# Altium footprint library MiscPower.PcbLib: 174 footprints (part 11 of 12)
Each footprint in its own frame and in the unit in brackets; x right, y up, seen from the top. Pads: shape width x height; smd on the part's side, far side on the other; paste and mask are expansions set on the pad; w line width, h text height; cw(c..) or ccw(c..) is an arc to the next point about the centre after c.
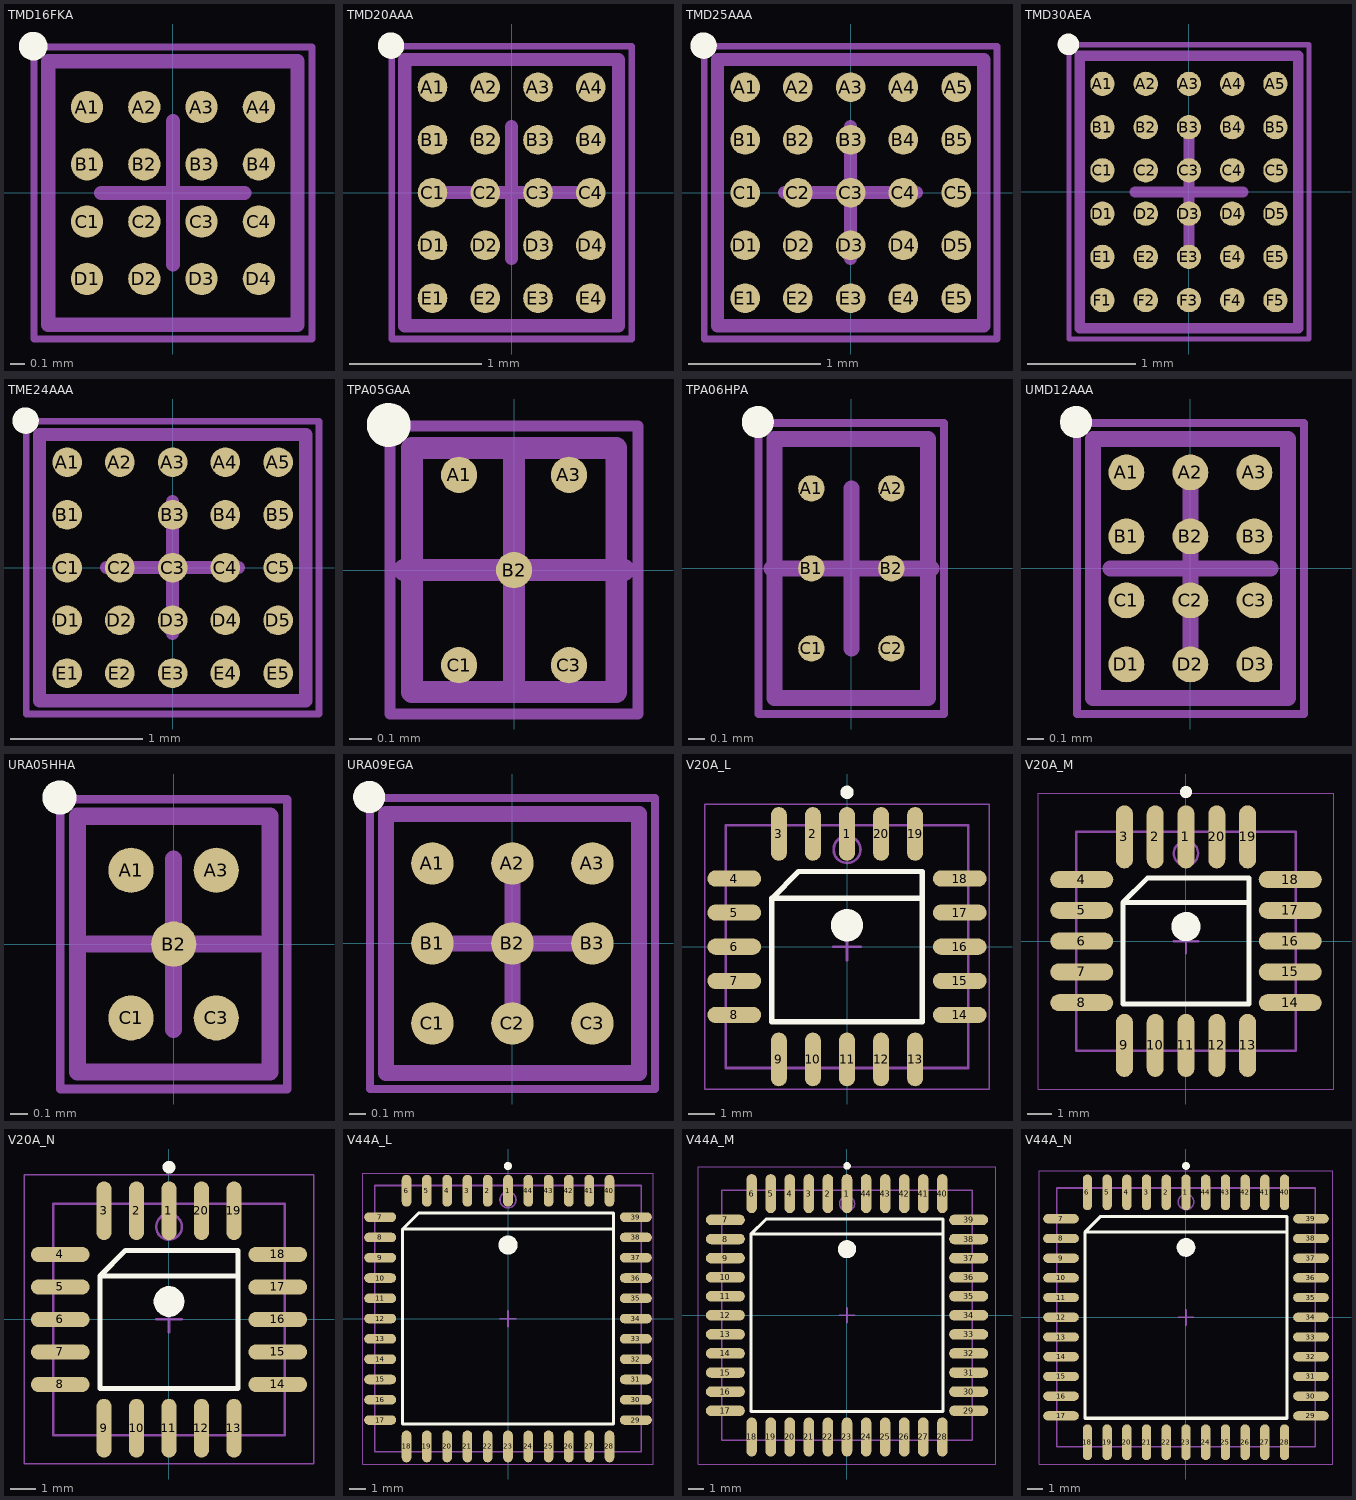
[diagram p10: the footprints below, top view; thin cyan lines are the x and y axes]

## TMD16FKA [mm] "Micro SMD, 16-Leads, Body 1.84x1.74mm, Pitch 0.4mm, NSC Recommended"
height 0.68
pads (16):
  round 0.225 smd paste-0.112 mask+0.05: A1(-0.6,0.6) A2(-0.2,0.6) A3(0.2,0.6) A4(0.6,0.6) B1(-0.6,0.2) B2(-0.2,0.2) B3(0.2,0.2) B4(0.6,0.2) C1(-0.6,-0.2) C2(-0.2,-0.2) C3(0.2,-0.2) C4(0.6,-0.2) D1(-0.6,-0.6) D2(-0.2,-0.6) D3(0.2,-0.6) D4(0.6,-0.6)
Top Overlay:
  circle w0.1: c-0.975,1.025 r0.05
Top Paste:
  circle w0.05: c-0.525,0.675 r0.025
  circle w0.05: c-0.675,0.525 r0.025
  circle w0.05: c-0.675,0.675 r0.025
  circle w0.05: c-0.525,0.525 r0.025
  circle w0.05: c-0.125,0.675 r0.025
  circle w0.05: c-0.275,0.525 r0.025
  circle w0.05: c-0.275,0.675 r0.025
  circle w0.05: c-0.125,0.525 r0.025
  circle w0.05: c0.275,0.675 r0.025
  circle w0.05: c0.125,0.525 r0.025
  circle w0.05: c0.125,0.675 r0.025
  circle w0.05: c0.275,0.525 r0.025
  circle w0.05: c0.675,0.675 r0.025
  circle w0.05: c0.525,0.525 r0.025
  circle w0.05: c0.525,0.675 r0.025
  circle w0.05: c0.675,0.525 r0.025
  circle w0.05: c-0.525,0.275 r0.025
  circle w0.05: c-0.675,0.125 r0.025
  circle w0.05: c-0.675,0.275 r0.025
  circle w0.05: c-0.525,0.125 r0.025
  circle w0.05: c-0.125,0.275 r0.025
  circle w0.05: c-0.275,0.125 r0.025
  circle w0.05: c-0.275,0.275 r0.025
  circle w0.05: c-0.125,0.125 r0.025
  circle w0.05: c0.275,0.275 r0.025
  circle w0.05: c0.125,0.125 r0.025
  circle w0.05: c0.125,0.275 r0.025
  circle w0.05: c0.275,0.125 r0.025
  circle w0.05: c0.675,0.275 r0.025
  circle w0.05: c0.525,0.125 r0.025
  circle w0.05: c0.525,0.275 r0.025
  circle w0.05: c0.675,0.125 r0.025
  circle w0.05: c-0.525,-0.125 r0.025
  circle w0.05: c-0.675,-0.275 r0.025
  circle w0.05: c-0.675,-0.125 r0.025
  circle w0.05: c-0.525,-0.275 r0.025
  circle w0.05: c-0.125,-0.125 r0.025
  circle w0.05: c-0.275,-0.275 r0.025
  circle w0.05: c-0.275,-0.125 r0.025
  circle w0.05: c-0.125,-0.275 r0.025
  circle w0.05: c0.275,-0.125 r0.025
  circle w0.05: c0.125,-0.275 r0.025
  circle w0.05: c0.125,-0.125 r0.025
  circle w0.05: c0.275,-0.275 r0.025
  circle w0.05: c0.675,-0.125 r0.025
  circle w0.05: c0.525,-0.275 r0.025
  circle w0.05: c0.525,-0.125 r0.025
  circle w0.05: c0.675,-0.275 r0.025
  circle w0.05: c-0.525,-0.525 r0.025
  circle w0.05: c-0.675,-0.675 r0.025
  circle w0.05: c-0.675,-0.525 r0.025
  circle w0.05: c-0.525,-0.675 r0.025
  circle w0.05: c-0.125,-0.525 r0.025
  circle w0.05: c-0.275,-0.675 r0.025
  circle w0.05: c-0.275,-0.525 r0.025
  circle w0.05: c-0.125,-0.675 r0.025
  circle w0.05: c0.275,-0.525 r0.025
  circle w0.05: c0.125,-0.675 r0.025
  circle w0.05: c0.125,-0.525 r0.025
  circle w0.05: c0.275,-0.675 r0.025
  circle w0.05: c0.675,-0.525 r0.025
  circle w0.05: c0.525,-0.675 r0.025
  circle w0.05: c0.525,-0.525 r0.025
  circle w0.05: c0.675,-0.675 r0.025
  rectangle: -0.675,0.475 -0.525,0.525
  region: -0.725,0.675 -0.725,0.525 -0.675,0.525 -0.675,0.675
  region: -0.525,0.725 -0.675,0.725 -0.675,0.675 -0.525,0.675
  region: -0.475,0.525 -0.475,0.675 -0.525,0.675 -0.525,0.525
  region: -0.675,0.675 -0.675,0.525 -0.525,0.525 -0.525,0.675
  rectangle: -0.275,0.475 -0.125,0.525
  region: -0.325,0.675 -0.325,0.525 -0.275,0.525 -0.275,0.675
  region: -0.125,0.725 -0.275,0.725 -0.275,0.675 -0.125,0.675
  region: -0.075,0.525 -0.075,0.675 -0.125,0.675 -0.125,0.525
  region: -0.275,0.675 -0.275,0.525 -0.125,0.525 -0.125,0.675
  rectangle: 0.125,0.475 0.275,0.525
  region: 0.075,0.675 0.075,0.525 0.125,0.525 0.125,0.675
  region: 0.275,0.725 0.125,0.725 0.125,0.675 0.275,0.675
  region: 0.325,0.525 0.325,0.675 0.275,0.675 0.275,0.525
  region: 0.125,0.675 0.125,0.525 0.275,0.525 0.275,0.675
  rectangle: 0.525,0.475 0.675,0.525
  region: 0.475,0.675 0.475,0.525 0.525,0.525 0.525,0.675
  region: 0.675,0.725 0.525,0.725 0.525,0.675 0.675,0.675
  region: 0.725,0.525 0.725,0.675 0.675,0.675 0.675,0.525
  region: 0.525,0.675 0.525,0.525 0.675,0.525 0.675,0.675
  rectangle: -0.675,0.075 -0.525,0.125
  region: -0.725,0.275 -0.725,0.125 -0.675,0.125 -0.675,0.275
  region: -0.525,0.325 -0.675,0.325 -0.675,0.275 -0.525,0.275
  region: -0.475,0.125 -0.475,0.275 -0.525,0.275 -0.525,0.125
  region: -0.675,0.275 -0.675,0.125 -0.525,0.125 -0.525,0.275
  rectangle: -0.275,0.075 -0.125,0.125
  region: -0.325,0.275 -0.325,0.125 -0.275,0.125 -0.275,0.275
  region: -0.125,0.325 -0.275,0.325 -0.275,0.275 -0.125,0.275
  region: -0.075,0.125 -0.075,0.275 -0.125,0.275 -0.125,0.125
  region: -0.275,0.275 -0.275,0.125 -0.125,0.125 -0.125,0.275
  rectangle: 0.125,0.075 0.275,0.125
  region: 0.075,0.275 0.075,0.125 0.125,0.125 0.125,0.275
  region: 0.275,0.325 0.125,0.325 0.125,0.275 0.275,0.275
  region: 0.325,0.125 0.325,0.275 0.275,0.275 0.275,0.125
  region: 0.125,0.275 0.125,0.125 0.275,0.125 0.275,0.275
  rectangle: 0.525,0.075 0.675,0.125
  region: 0.475,0.275 0.475,0.125 0.525,0.125 0.525,0.275
  region: 0.675,0.325 0.525,0.325 0.525,0.275 0.675,0.275
  region: 0.725,0.125 0.725,0.275 0.675,0.275 0.675,0.125
  region: 0.525,0.275 0.525,0.125 0.675,0.125 0.675,0.275
  rectangle: -0.675,-0.325 -0.525,-0.275
  region: -0.725,-0.125 -0.725,-0.275 -0.675,-0.275 -0.675,-0.125
  region: -0.525,-0.075 -0.675,-0.075 -0.675,-0.125 -0.525,-0.125
  region: -0.475,-0.275 -0.475,-0.125 -0.525,-0.125 -0.525,-0.275
  region: -0.675,-0.125 -0.675,-0.275 -0.525,-0.275 -0.525,-0.125
  rectangle: -0.275,-0.325 -0.125,-0.275
  region: -0.325,-0.125 -0.325,-0.275 -0.275,-0.275 -0.275,-0.125
  region: -0.125,-0.075 -0.275,-0.075 -0.275,-0.125 -0.125,-0.125
  region: -0.075,-0.275 -0.075,-0.125 -0.125,-0.125 -0.125,-0.275
  region: -0.275,-0.125 -0.275,-0.275 -0.125,-0.275 -0.125,-0.125
  rectangle: 0.125,-0.325 0.275,-0.275
  region: 0.075,-0.125 0.075,-0.275 0.125,-0.275 0.125,-0.125
  region: 0.275,-0.075 0.125,-0.075 0.125,-0.125 0.275,-0.125
  region: 0.325,-0.275 0.325,-0.125 0.275,-0.125 0.275,-0.275
  region: 0.125,-0.125 0.125,-0.275 0.275,-0.275 0.275,-0.125
  rectangle: 0.525,-0.325 0.675,-0.275
  region: 0.475,-0.125 0.475,-0.275 0.525,-0.275 0.525,-0.125
  region: 0.675,-0.075 0.525,-0.075 0.525,-0.125 0.675,-0.125
  region: 0.725,-0.275 0.725,-0.125 0.675,-0.125 0.675,-0.275
  region: 0.525,-0.125 0.525,-0.275 0.675,-0.275 0.675,-0.125
  rectangle: -0.675,-0.725 -0.525,-0.675
  region: -0.725,-0.525 -0.725,-0.675 -0.675,-0.675 -0.675,-0.525
  region: -0.525,-0.475 -0.675,-0.475 -0.675,-0.525 -0.525,-0.525
  region: -0.475,-0.675 -0.475,-0.525 -0.525,-0.525 -0.525,-0.675
  region: -0.675,-0.525 -0.675,-0.675 -0.525,-0.675 -0.525,-0.525
  rectangle: -0.275,-0.725 -0.125,-0.675
  region: -0.325,-0.525 -0.325,-0.675 -0.275,-0.675 -0.275,-0.525
  region: -0.125,-0.475 -0.275,-0.475 -0.275,-0.525 -0.125,-0.525
  region: -0.075,-0.675 -0.075,-0.525 -0.125,-0.525 -0.125,-0.675
  region: -0.275,-0.525 -0.275,-0.675 -0.125,-0.675 -0.125,-0.525
  rectangle: 0.125,-0.725 0.275,-0.675
  region: 0.075,-0.525 0.075,-0.675 0.125,-0.675 0.125,-0.525
  region: 0.275,-0.475 0.125,-0.475 0.125,-0.525 0.275,-0.525
  region: 0.325,-0.675 0.325,-0.525 0.275,-0.525 0.275,-0.675
  region: 0.125,-0.525 0.125,-0.675 0.275,-0.675 0.275,-0.525
  rectangle: 0.525,-0.725 0.675,-0.675
  region: 0.475,-0.525 0.475,-0.675 0.525,-0.675 0.525,-0.525
  region: 0.675,-0.475 0.525,-0.475 0.525,-0.525 0.675,-0.525
  region: 0.725,-0.675 0.725,-0.525 0.675,-0.525 0.675,-0.675
  region: 0.525,-0.525 0.525,-0.675 0.675,-0.675 0.675,-0.525
Mechanical 13:
  lines w0.1: -0.87,-0.92 -0.87,0.92 0.87,0.92 0.87,-0.92 -0.87,-0.92
Mechanical 15:
  lines w0.05: -0.97,-1.02 -0.97,1.02 0.97,1.02 0.97,-1.02 -0.97,-1.02
  lines w0.1: -0.5,0 0.5,0 ; 0,-0.5 0,0.5
3D body: height 0.68, standoff 0, extent -0.87,-0.92 0.87,0.92

## TMD20AAA [mm] "Micro SMD, 20-Leads, Body 2.02x1.62mm, Pitch 0.4mm, NSC Recommended"
height 0.68
pads (20):
  round 0.225 smd paste-0.112 mask+0.05: A1(-0.6,0.8) A2(-0.2,0.8) A3(0.2,0.8) A4(0.6,0.8) B1(-0.6,0.4) B2(-0.2,0.4) B3(0.2,0.4) B4(0.6,0.4) C1(-0.6,0) C2(-0.2,0) C3(0.2,0) C4(0.6,0) D1(-0.6,-0.4) D2(-0.2,-0.4) D3(0.2,-0.4) D4(0.6,-0.4) E1(-0.6,-0.8) E2(-0.2,-0.8) E3(0.2,-0.8) E4(0.6,-0.8)
Top Overlay:
  circle w0.1: c-0.915,1.115 r0.05
Top Paste:
  drawing of 180 lines, arcs and shapes, not listed
Mechanical 13:
  lines w0.1: -0.81,-1.01 0.81,-1.01 0.81,1.01 -0.81,1.01 -0.81,-1.01
Mechanical 15:
  lines w0.05: -0.91,-1.11 0.91,-1.11 0.91,1.11 -0.91,1.11 -0.91,-1.11
  lines w0.1: -0.5,0 0.5,0 ; 0,-0.5 0,0.5
3D body: height 0.68, standoff 0, extent -0.81,-1.01 0.81,1.01

## TMD25AAA [mm] "Micro SMD, 25-Leads, Body 2.02x2.02mm, Pitch 0.4mm, NSC Recommended"
height 0.68
pads (25):
  round 0.225 smd paste-0.112 mask+0.05: A1(-0.8,0.8) A2(-0.4,0.8) A3(0,0.8) A4(0.4,0.8) A5(0.8,0.8) B1(-0.8,0.4) B2(-0.4,0.4) B3(0,0.4) B4(0.4,0.4) B5(0.8,0.4) C1(-0.8,0) C2(-0.4,0) C3(0,0) C4(0.4,0) C5(0.8,0) D1(-0.8,-0.4) D2(-0.4,-0.4) D3(0,-0.4) D4(0.4,-0.4) D5(0.8,-0.4) E1(-0.8,-0.8) E2(-0.4,-0.8) E3(0,-0.8) E4(0.4,-0.8) E5(0.8,-0.8)
Top Overlay:
  circle w0.1: c-1.115,1.115 r0.05
Top Paste:
  drawing of 225 lines, arcs and shapes, not listed
Mechanical 13:
  lines w0.1: -1.01,-1.01 1.01,-1.01 1.01,1.01 -1.01,1.01 -1.01,-1.01
Mechanical 15:
  lines w0.05: -1.11,-1.11 1.11,-1.11 1.11,1.11 -1.11,1.11 -1.11,-1.11
  lines w0.1: -0.5,0 0.5,0 ; 0,-0.5 0,0.5
3D body: height 0.68, standoff 0, extent -1.01,-1.01 1.01,1.01

## TMD30AEA [mm] "Micro SMD, 30-Leads, Body 2.52x2.02mm, Pitch 0.4mm, NSC Recommended"
height 0.68
pads (30):
  round 0.225 smd paste-0.112 mask+0.05: A1(-0.8,1) A2(-0.4,1) A3(0,1) A4(0.4,1) A5(0.8,1) B1(-0.8,0.6) B2(-0.4,0.6) B3(0,0.6) B4(0.4,0.6) B5(0.8,0.6) C1(-0.8,0.2) C2(-0.4,0.2) C3(0,0.2) C4(0.4,0.2) C5(0.8,0.2) D1(-0.8,-0.2) D2(-0.4,-0.2) D3(0,-0.2) D4(0.4,-0.2) D5(0.8,-0.2) E1(-0.8,-0.6) E2(-0.4,-0.6) E3(0,-0.6) E4(0.4,-0.6) E5(0.8,-0.6) F1(-0.8,-1) F2(-0.4,-1) F3(0,-1) F4(0.4,-1) F5(0.8,-1)
Top Overlay:
  circle w0.1: c-1.115,1.365 r0.05
Top Paste:
  drawing of 270 lines, arcs and shapes, not listed
Mechanical 13:
  lines w0.1: -1.01,-1.26 1.01,-1.26 1.01,1.26 -1.01,1.26 -1.01,-1.26
Mechanical 15:
  lines w0.05: -1.11,-1.36 1.11,-1.36 1.11,1.36 -1.11,1.36 -1.11,-1.36
  lines w0.1: -0.5,0 0.5,0 ; 0,-0.5 0,0.5
3D body: height 0.68, standoff 0, extent -1.01,-1.26 1.01,1.26

## TME24AAA [mm] "Micro SMD, 24-Leads, Body 2.02x2.02mm, Pitch 0.4mm, NSC Recommended"
height 0.68
pads (24):
  round 0.225 smd paste-0.112 mask+0.05: A1(-0.8,0.8) A2(-0.4,0.8) A3(0,0.8) A4(0.4,0.8) A5(0.8,0.8) B1(-0.8,0.4) B3(0,0.4) B4(0.4,0.4) B5(0.8,0.4) C1(-0.8,0) C2(-0.4,0) C3(0,0) C4(0.4,0) C5(0.8,0) D1(-0.8,-0.4) D2(-0.4,-0.4) D3(0,-0.4) D4(0.4,-0.4) D5(0.8,-0.4) E1(-0.8,-0.8) E2(-0.4,-0.8) E3(0,-0.8) E4(0.4,-0.8) E5(0.8,-0.8)
Top Overlay:
  circle w0.1: c-1.115,1.115 r0.05
Top Paste:
  drawing of 216 lines, arcs and shapes, not listed
Mechanical 13:
  lines w0.1: -1.01,-1.01 -1.01,1.01 1.01,1.01 1.01,-1.01 -1.01,-1.01
Mechanical 15:
  lines w0.05: -1.11,-1.11 -1.11,1.11 1.11,1.11 1.11,-1.11 -1.11,-1.11
  lines w0.1: -0.5,0 0.5,0 ; 0,-0.5 0,0.5
3D body: height 0.68, standoff 0, extent -1.01,-1.01 1.01,1.01

## TPA05GAA [mm] "Micro SMD, 5-Leads, Body 1.11x0.93mm, Pitch 0.5mm, NSC Recommended"
height 0.58
pads (5):
  round 0.165 smd paste-0.082 mask+0.05: A1(-0.25,0.433) A3(0.25,0.433) B2(0,0) C1(-0.25,-0.433) C3(0.25,-0.433)
Top Overlay:
  circle w0.1: c-0.57,0.66 r0.05
Top Paste:
  circle w0.05: c-0.35,-0.533 r0.025
  circle w0.05: c-0.15,-0.333 r0.025
  circle w0.05: c-0.35,-0.333 r0.025
  circle w0.05: c-0.15,-0.533 r0.025
  circle w0.05: c0.15,-0.533 r0.025
  circle w0.05: c0.35,-0.333 r0.025
  circle w0.05: c0.15,-0.333 r0.025
  circle w0.05: c0.35,-0.533 r0.025
  circle w0.05: c-0.35,0.333 r0.025
  circle w0.05: c-0.15,0.533 r0.025
  circle w0.05: c-0.35,0.533 r0.025
  circle w0.05: c-0.15,0.333 r0.025
  circle w0.05: c0.15,0.333 r0.025
  circle w0.05: c0.35,0.533 r0.025
  circle w0.05: c0.15,0.533 r0.025
  circle w0.05: c0.35,0.333 r0.025
  circle w0.05: c-0.1,-0.1 r0.025
  circle w0.05: c0.1,0.1 r0.025
  circle w0.05: c-0.1,0.1 r0.025
  circle w0.05: c0.1,-0.1 r0.025
  region: -0.15,-0.533 -0.35,-0.533 -0.35,-0.583 -0.15,-0.583
  rectangle: -0.35,-0.533 -0.15,-0.333
  rectangle: -0.35,-0.333 -0.15,-0.283
  region: -0.35,-0.533 -0.35,-0.333 -0.4,-0.333 -0.4,-0.533
  region: -0.15,-0.333 -0.15,-0.533 -0.1,-0.533 -0.1,-0.333
  region: 0.35,-0.533 0.15,-0.533 0.15,-0.583 0.35,-0.583
  rectangle: 0.15,-0.533 0.35,-0.333
  rectangle: 0.15,-0.333 0.35,-0.283
  region: 0.15,-0.533 0.15,-0.333 0.1,-0.333 0.1,-0.533
  region: 0.35,-0.333 0.35,-0.533 0.4,-0.533 0.4,-0.333
  region: -0.15,0.333 -0.35,0.333 -0.35,0.283 -0.15,0.283
  rectangle: -0.35,0.333 -0.15,0.533
  rectangle: -0.35,0.533 -0.15,0.583
  region: -0.35,0.333 -0.35,0.533 -0.4,0.533 -0.4,0.333
  region: -0.15,0.533 -0.15,0.333 -0.1,0.333 -0.1,0.533
  region: 0.35,0.333 0.15,0.333 0.15,0.283 0.35,0.283
  rectangle: 0.15,0.333 0.35,0.533
  rectangle: 0.15,0.533 0.35,0.583
  region: 0.15,0.333 0.15,0.533 0.1,0.533 0.1,0.333
  region: 0.35,0.533 0.35,0.333 0.4,0.333 0.4,0.533
  region: 0.1,-0.1 -0.1,-0.1 -0.1,-0.15 0.1,-0.15
  rectangle: -0.1,-0.1 0.1,0.1
  rectangle: -0.1,0.1 0.1,0.15
  region: -0.1,-0.1 -0.1,0.1 -0.15,0.1 -0.15,-0.1
  region: 0.1,0.1 0.1,-0.1 0.15,-0.1 0.15,0.1
Mechanical 13:
  lines w0.1: -0.465,-0.555 0.465,-0.555 0.465,0.555 -0.465,0.555 -0.465,-0.555
Mechanical 15:
  lines w0.05: -0.565,-0.655 0.565,-0.655 0.565,0.655 -0.565,0.655 -0.565,-0.655
  lines w0.1: -0.5,0 0.5,0 ; 0,-0.5 0,0.5
3D body: height 0.58, standoff 0, extent -0.464,-0.554 0.464,0.554

## TPA06HPA [mm] "Micro SMD, 6-Leads, Body 1.62x0.96mm, Pitch 0.5mm, NSC Recommended"
height 0.58
pads (6):
  round 0.165 smd paste-0.082 mask+0.05: A1(-0.25,0.5) A2(0.25,0.5) B1(-0.25,0) B2(0.25,0) C1(-0.25,-0.5) C2(0.25,-0.5)
Top Overlay:
  circle w0.1: c-0.585,0.915 r0.05
Top Paste:
  circle w0.05: c-0.15,0.4 r0.025
  circle w0.05: c-0.35,0.6 r0.025
  circle w0.05: c-0.15,0.6 r0.025
  circle w0.05: c-0.35,0.4 r0.025
  circle w0.05: c0.35,0.4 r0.025
  circle w0.05: c0.15,0.6 r0.025
  circle w0.05: c0.35,0.6 r0.025
  circle w0.05: c0.15,0.4 r0.025
  circle w0.05: c-0.15,-0.1 r0.025
  circle w0.05: c-0.35,0.1 r0.025
  circle w0.05: c-0.15,0.1 r0.025
  circle w0.05: c-0.35,-0.1 r0.025
  circle w0.05: c0.35,-0.1 r0.025
  circle w0.05: c0.15,0.1 r0.025
  circle w0.05: c0.35,0.1 r0.025
  circle w0.05: c0.15,-0.1 r0.025
  circle w0.05: c-0.15,-0.6 r0.025
  circle w0.05: c-0.35,-0.4 r0.025
  circle w0.05: c-0.15,-0.4 r0.025
  circle w0.05: c-0.35,-0.6 r0.025
  circle w0.05: c0.35,-0.6 r0.025
  circle w0.05: c0.15,-0.4 r0.025
  circle w0.05: c0.35,-0.4 r0.025
  circle w0.05: c0.15,-0.6 r0.025
  region: -0.15,0.6 -0.15,0.4 -0.1,0.4 -0.1,0.6
  region: -0.35,0.4 -0.35,0.6 -0.4,0.6 -0.4,0.4
  rectangle: -0.35,0.6 -0.15,0.65
  rectangle: -0.35,0.4 -0.15,0.6
  region: -0.15,0.4 -0.35,0.4 -0.35,0.35 -0.15,0.35
  region: 0.35,0.6 0.35,0.4 0.4,0.4 0.4,0.6
  region: 0.15,0.4 0.15,0.6 0.1,0.6 0.1,0.4
  rectangle: 0.15,0.6 0.35,0.65
  rectangle: 0.15,0.4 0.35,0.6
  region: 0.35,0.4 0.15,0.4 0.15,0.35 0.35,0.35
  region: -0.15,0.1 -0.15,-0.1 -0.1,-0.1 -0.1,0.1
  region: -0.35,-0.1 -0.35,0.1 -0.4,0.1 -0.4,-0.1
  rectangle: -0.35,0.1 -0.15,0.15
  rectangle: -0.35,-0.1 -0.15,0.1
  region: -0.15,-0.1 -0.35,-0.1 -0.35,-0.15 -0.15,-0.15
  region: 0.35,0.1 0.35,-0.1 0.4,-0.1 0.4,0.1
  region: 0.15,-0.1 0.15,0.1 0.1,0.1 0.1,-0.1
  rectangle: 0.15,0.1 0.35,0.15
  rectangle: 0.15,-0.1 0.35,0.1
  region: 0.35,-0.1 0.15,-0.1 0.15,-0.15 0.35,-0.15
  region: -0.15,-0.4 -0.15,-0.6 -0.1,-0.6 -0.1,-0.4
  region: -0.35,-0.6 -0.35,-0.4 -0.4,-0.4 -0.4,-0.6
  rectangle: -0.35,-0.4 -0.15,-0.35
  rectangle: -0.35,-0.6 -0.15,-0.4
  region: -0.15,-0.6 -0.35,-0.6 -0.35,-0.65 -0.15,-0.65
  region: 0.35,-0.4 0.35,-0.6 0.4,-0.6 0.4,-0.4
  region: 0.15,-0.6 0.15,-0.4 0.1,-0.4 0.1,-0.6
  rectangle: 0.15,-0.4 0.35,-0.35
  rectangle: 0.15,-0.6 0.35,-0.4
  region: 0.35,-0.6 0.15,-0.6 0.15,-0.65 0.35,-0.65
Mechanical 13:
  lines w0.1: -0.48,-0.81 -0.48,0.81 0.48,0.81 0.48,-0.81 -0.48,-0.81
Mechanical 15:
  lines w0.05: -0.58,-0.91 -0.58,0.91 0.58,0.91 0.58,-0.91 -0.58,-0.91
  lines w0.1: -0.5,0 0.5,0 ; 0,-0.5 0,0.5
3D body: height 0.58, standoff 0, extent -0.48,-0.81 0.48,0.81

## UMD12AAA [mm] "Micro SMD, 12-Leads, Body 1.62x1.22mm, Pitch 0.4mm, NSC Recommended"
height 0.47
pads (12):
  round 0.225 smd paste-0.112 mask+0.05: A1(-0.4,0.6) A2(0,0.6) A3(0.4,0.6) B1(-0.4,0.2) B2(0,0.2) B3(0.4,0.2) C1(-0.4,-0.2) C2(0,-0.2) C3(0.4,-0.2) D1(-0.4,-0.6) D2(0,-0.6) D3(0.4,-0.6)
Top Overlay:
  circle w0.1: c-0.715,0.915 r0.05
Top Paste:
  circle w0.05: c-0.325,0.675 r0.025
  circle w0.05: c-0.475,0.525 r0.025
  circle w0.05: c-0.475,0.675 r0.025
  circle w0.05: c-0.325,0.525 r0.025
  circle w0.05: c0.075,0.675 r0.025
  circle w0.05: c-0.075,0.525 r0.025
  circle w0.05: c-0.075,0.675 r0.025
  circle w0.05: c0.075,0.525 r0.025
  circle w0.05: c0.475,0.675 r0.025
  circle w0.05: c0.325,0.525 r0.025
  circle w0.05: c0.325,0.675 r0.025
  circle w0.05: c0.475,0.525 r0.025
  circle w0.05: c-0.325,0.275 r0.025
  circle w0.05: c-0.475,0.125 r0.025
  circle w0.05: c-0.475,0.275 r0.025
  circle w0.05: c-0.325,0.125 r0.025
  circle w0.05: c0.075,0.275 r0.025
  circle w0.05: c-0.075,0.125 r0.025
  circle w0.05: c-0.075,0.275 r0.025
  circle w0.05: c0.075,0.125 r0.025
  circle w0.05: c0.475,0.275 r0.025
  circle w0.05: c0.325,0.125 r0.025
  circle w0.05: c0.325,0.275 r0.025
  circle w0.05: c0.475,0.125 r0.025
  circle w0.05: c-0.325,-0.125 r0.025
  circle w0.05: c-0.475,-0.275 r0.025
  circle w0.05: c-0.475,-0.125 r0.025
  circle w0.05: c-0.325,-0.275 r0.025
  circle w0.05: c0.075,-0.125 r0.025
  circle w0.05: c-0.075,-0.275 r0.025
  circle w0.05: c-0.075,-0.125 r0.025
  circle w0.05: c0.075,-0.275 r0.025
  circle w0.05: c0.475,-0.125 r0.025
  circle w0.05: c0.325,-0.275 r0.025
  circle w0.05: c0.325,-0.125 r0.025
  circle w0.05: c0.475,-0.275 r0.025
  circle w0.05: c-0.325,-0.525 r0.025
  circle w0.05: c-0.475,-0.675 r0.025
  circle w0.05: c-0.475,-0.525 r0.025
  circle w0.05: c-0.325,-0.675 r0.025
  circle w0.05: c0.075,-0.525 r0.025
  circle w0.05: c-0.075,-0.675 r0.025
  circle w0.05: c-0.075,-0.525 r0.025
  circle w0.05: c0.075,-0.675 r0.025
  circle w0.05: c0.475,-0.525 r0.025
  circle w0.05: c0.325,-0.675 r0.025
  circle w0.05: c0.325,-0.525 r0.025
  circle w0.05: c0.475,-0.675 r0.025
  rectangle: -0.475,0.475 -0.325,0.525
  region: -0.525,0.675 -0.525,0.525 -0.475,0.525 -0.475,0.675
  region: -0.325,0.725 -0.475,0.725 -0.475,0.675 -0.325,0.675
  region: -0.275,0.525 -0.275,0.675 -0.325,0.675 -0.325,0.525
  region: -0.475,0.675 -0.475,0.525 -0.325,0.525 -0.325,0.675
  rectangle: -0.075,0.475 0.075,0.525
  region: -0.125,0.675 -0.125,0.525 -0.075,0.525 -0.075,0.675
  region: 0.075,0.725 -0.075,0.725 -0.075,0.675 0.075,0.675
  region: 0.125,0.525 0.125,0.675 0.075,0.675 0.075,0.525
  region: -0.075,0.675 -0.075,0.525 0.075,0.525 0.075,0.675
  rectangle: 0.325,0.475 0.475,0.525
  region: 0.275,0.675 0.275,0.525 0.325,0.525 0.325,0.675
  region: 0.475,0.725 0.325,0.725 0.325,0.675 0.475,0.675
  region: 0.525,0.525 0.525,0.675 0.475,0.675 0.475,0.525
  region: 0.325,0.675 0.325,0.525 0.475,0.525 0.475,0.675
  rectangle: -0.475,0.075 -0.325,0.125
  region: -0.525,0.275 -0.525,0.125 -0.475,0.125 -0.475,0.275
  region: -0.325,0.325 -0.475,0.325 -0.475,0.275 -0.325,0.275
  region: -0.275,0.125 -0.275,0.275 -0.325,0.275 -0.325,0.125
  region: -0.475,0.275 -0.475,0.125 -0.325,0.125 -0.325,0.275
  rectangle: -0.075,0.075 0.075,0.125
  region: -0.125,0.275 -0.125,0.125 -0.075,0.125 -0.075,0.275
  region: 0.075,0.325 -0.075,0.325 -0.075,0.275 0.075,0.275
  region: 0.125,0.125 0.125,0.275 0.075,0.275 0.075,0.125
  region: -0.075,0.275 -0.075,0.125 0.075,0.125 0.075,0.275
  rectangle: 0.325,0.075 0.475,0.125
  region: 0.275,0.275 0.275,0.125 0.325,0.125 0.325,0.275
  region: 0.475,0.325 0.325,0.325 0.325,0.275 0.475,0.275
  region: 0.525,0.125 0.525,0.275 0.475,0.275 0.475,0.125
  region: 0.325,0.275 0.325,0.125 0.475,0.125 0.475,0.275
  rectangle: -0.475,-0.325 -0.325,-0.275
  region: -0.525,-0.125 -0.525,-0.275 -0.475,-0.275 -0.475,-0.125
  region: -0.325,-0.075 -0.475,-0.075 -0.475,-0.125 -0.325,-0.125
  region: -0.275,-0.275 -0.275,-0.125 -0.325,-0.125 -0.325,-0.275
  region: -0.475,-0.125 -0.475,-0.275 -0.325,-0.275 -0.325,-0.125
  rectangle: -0.075,-0.325 0.075,-0.275
  region: -0.125,-0.125 -0.125,-0.275 -0.075,-0.275 -0.075,-0.125
  region: 0.075,-0.075 -0.075,-0.075 -0.075,-0.125 0.075,-0.125
  region: 0.125,-0.275 0.125,-0.125 0.075,-0.125 0.075,-0.275
  region: -0.075,-0.125 -0.075,-0.275 0.075,-0.275 0.075,-0.125
  rectangle: 0.325,-0.325 0.475,-0.275
  region: 0.275,-0.125 0.275,-0.275 0.325,-0.275 0.325,-0.125
  region: 0.475,-0.075 0.325,-0.075 0.325,-0.125 0.475,-0.125
  region: 0.525,-0.275 0.525,-0.125 0.475,-0.125 0.475,-0.275
  region: 0.325,-0.125 0.325,-0.275 0.475,-0.275 0.475,-0.125
  rectangle: -0.475,-0.725 -0.325,-0.675
  region: -0.525,-0.525 -0.525,-0.675 -0.475,-0.675 -0.475,-0.525
  region: -0.325,-0.475 -0.475,-0.475 -0.475,-0.525 -0.325,-0.525
  region: -0.275,-0.675 -0.275,-0.525 -0.325,-0.525 -0.325,-0.675
  region: -0.475,-0.525 -0.475,-0.675 -0.325,-0.675 -0.325,-0.525
  rectangle: -0.075,-0.725 0.075,-0.675
  region: -0.125,-0.525 -0.125,-0.675 -0.075,-0.675 -0.075,-0.525
  region: 0.075,-0.475 -0.075,-0.475 -0.075,-0.525 0.075,-0.525
  region: 0.125,-0.675 0.125,-0.525 0.075,-0.525 0.075,-0.675
  region: -0.075,-0.525 -0.075,-0.675 0.075,-0.675 0.075,-0.525
  rectangle: 0.325,-0.725 0.475,-0.675
  region: 0.275,-0.525 0.275,-0.675 0.325,-0.675 0.325,-0.525
  region: 0.475,-0.475 0.325,-0.475 0.325,-0.525 0.475,-0.525
  region: 0.525,-0.675 0.525,-0.525 0.475,-0.525 0.475,-0.675
  region: 0.325,-0.525 0.325,-0.675 0.475,-0.675 0.475,-0.525
Mechanical 13:
  lines w0.1: -0.61,-0.81 -0.61,0.81 0.61,0.81 0.61,-0.81 -0.61,-0.81
Mechanical 15:
  lines w0.05: -0.71,-0.91 -0.71,0.91 0.71,0.91 0.71,-0.91 -0.71,-0.91
  lines w0.1: -0.5,0 0.5,0 ; 0,-0.5 0,0.5
3D body: height 0.47, standoff 0, extent -0.61,-0.81 0.61,0.81

## URA05HHA [mm] "Micro SMD, 5-Leads, Body 1.5x1.13mm, Pitch 0.5mm, NSC Recommended"
height 0.43
pads (5):
  round 0.265 smd paste-0.132 mask+0.05: A1(-0.25,0.433) A3(0.25,0.433) B2(0,0) C1(-0.25,-0.433) C3(0.25,-0.433)
Top Overlay:
  circle w0.1: c-0.67,0.86 r0.05
Top Paste:
  circle w0.05: c-0.325,0.508 r0.025
  circle w0.05: c-0.175,0.358 r0.025
  circle w0.05: c-0.175,0.508 r0.025
  circle w0.05: c-0.325,0.358 r0.025
  circle w0.05: c0.175,0.508 r0.025
  circle w0.05: c0.325,0.358 r0.025
  circle w0.05: c0.325,0.508 r0.025
  circle w0.05: c0.175,0.358 r0.025
  circle w0.05: c-0.075,0.075 r0.025
  circle w0.05: c0.075,-0.075 r0.025
  circle w0.05: c0.075,0.075 r0.025
  circle w0.05: c-0.075,-0.075 r0.025
  circle w0.05: c0.175,-0.358 r0.025
  circle w0.05: c0.325,-0.508 r0.025
  circle w0.05: c0.325,-0.358 r0.025
  circle w0.05: c0.175,-0.508 r0.025
  circle w0.05: c-0.325,-0.358 r0.025
  circle w0.05: c-0.175,-0.508 r0.025
  circle w0.05: c-0.175,-0.358 r0.025
  circle w0.05: c-0.325,-0.508 r0.025
  region: -0.175,0.358 -0.325,0.358 -0.325,0.308 -0.175,0.308
  region: -0.175,0.508 -0.175,0.358 -0.125,0.358 -0.125,0.508
  rectangle: -0.325,0.508 -0.175,0.558
  region: -0.325,0.358 -0.325,0.508 -0.375,0.508 -0.375,0.358
  region: -0.325,0.508 -0.325,0.358 -0.175,0.358 -0.175,0.508
  region: 0.325,0.358 0.175,0.358 0.175,0.308 0.325,0.308
  region: 0.325,0.508 0.325,0.358 0.375,0.358 0.375,0.508
  rectangle: 0.175,0.508 0.325,0.558
  region: 0.175,0.358 0.175,0.508 0.125,0.508 0.125,0.358
  region: 0.175,0.508 0.175,0.358 0.325,0.358 0.325,0.508
  region: 0.075,-0.075 -0.075,-0.075 -0.075,-0.125 0.075,-0.125
  region: 0.075,0.075 0.075,-0.075 0.125,-0.075 0.125,0.075
  rectangle: -0.075,0.075 0.075,0.125
  region: -0.075,-0.075 -0.075,0.075 -0.125,0.075 -0.125,-0.075
  region: -0.075,0.075 -0.075,-0.075 0.075,-0.075 0.075,0.075
  region: 0.325,-0.508 0.175,-0.508 0.175,-0.558 0.325,-0.558
  region: 0.325,-0.358 0.325,-0.508 0.375,-0.508 0.375,-0.358
  rectangle: 0.175,-0.358 0.325,-0.308
  region: 0.175,-0.508 0.175,-0.358 0.125,-0.358 0.125,-0.508
  region: 0.175,-0.358 0.175,-0.508 0.325,-0.508 0.325,-0.358
  region: -0.175,-0.508 -0.325,-0.508 -0.325,-0.558 -0.175,-0.558
  region: -0.175,-0.358 -0.175,-0.508 -0.125,-0.508 -0.125,-0.358
  rectangle: -0.325,-0.358 -0.175,-0.308
  region: -0.325,-0.508 -0.325,-0.358 -0.375,-0.358 -0.375,-0.508
  region: -0.325,-0.358 -0.325,-0.508 -0.175,-0.508 -0.175,-0.358
Mechanical 13:
  lines w0.1: -0.565,-0.75 0.565,-0.75 0.565,0.75 -0.565,0.75 -0.565,-0.75
Mechanical 15:
  lines w0.05: -0.665,-0.85 0.665,-0.85 0.665,0.85 -0.665,0.85 -0.665,-0.85
  lines w0.1: -0.5,0 0.5,0 ; 0,-0.5 0,0.5
3D body: height 0.43, standoff 0, extent -0.564,-0.749 0.564,0.749

## URA09EGA [mm] "Micro SMD, 9-Leads, Body 1.62x1.58mm, Pitch 0.5mm, NSC Recommended"
height 0.43
pads (9):
  round 0.265 smd paste-0.132 mask+0.05: A1(-0.5,0.5) A2(0,0.5) A3(0.5,0.5) B1(-0.5,0) B2(0,0) B3(0.5,0) C1(-0.5,-0.5) C2(0,-0.5) C3(0.5,-0.5)
Top Overlay:
  circle w0.1: c-0.895,0.915 r0.05
Top Paste:
  circle w0.05: c-0.575,0.425 r0.025
  circle w0.05: c-0.425,0.575 r0.025
  circle w0.05: c-0.425,0.425 r0.025
  circle w0.05: c-0.575,0.575 r0.025
  circle w0.05: c-0.075,0.425 r0.025
  circle w0.05: c0.075,0.575 r0.025
  circle w0.05: c0.075,0.425 r0.025
  circle w0.05: c-0.075,0.575 r0.025
  circle w0.05: c0.425,0.425 r0.025
  circle w0.05: c0.575,0.575 r0.025
  circle w0.05: c0.575,0.425 r0.025
  circle w0.05: c0.425,0.575 r0.025
  circle w0.05: c-0.575,-0.075 r0.025
  circle w0.05: c-0.425,0.075 r0.025
  circle w0.05: c-0.425,-0.075 r0.025
  circle w0.05: c-0.575,0.075 r0.025
  circle w0.05: c-0.075,-0.075 r0.025
  circle w0.05: c0.075,0.075 r0.025
  circle w0.05: c0.075,-0.075 r0.025
  circle w0.05: c-0.075,0.075 r0.025
  circle w0.05: c0.425,-0.075 r0.025
  circle w0.05: c0.575,0.075 r0.025
  circle w0.05: c0.575,-0.075 r0.025
  circle w0.05: c0.425,0.075 r0.025
  circle w0.05: c-0.575,-0.575 r0.025
  circle w0.05: c-0.425,-0.425 r0.025
  circle w0.05: c-0.425,-0.575 r0.025
  circle w0.05: c-0.575,-0.425 r0.025
  circle w0.05: c-0.075,-0.575 r0.025
  circle w0.05: c0.075,-0.425 r0.025
  circle w0.05: c0.075,-0.575 r0.025
  circle w0.05: c-0.075,-0.425 r0.025
  circle w0.05: c0.425,-0.575 r0.025
  circle w0.05: c0.575,-0.425 r0.025
  circle w0.05: c0.575,-0.575 r0.025
  circle w0.05: c0.425,-0.425 r0.025
  region: -0.575,0.575 -0.575,0.425 -0.425,0.425 -0.425,0.575
  region: -0.575,0.425 -0.575,0.575 -0.625,0.575 -0.625,0.425
  rectangle: -0.575,0.575 -0.425,0.625
  region: -0.425,0.575 -0.425,0.425 -0.375,0.425 -0.375,0.575
  region: -0.425,0.425 -0.575,0.425 -0.575,0.375 -0.425,0.375
  region: -0.075,0.575 -0.075,0.425 0.075,0.425 0.075,0.575
  region: -0.075,0.425 -0.075,0.575 -0.125,0.575 -0.125,0.425
  rectangle: -0.075,0.575 0.075,0.625
  region: 0.075,0.575 0.075,0.425 0.125,0.425 0.125,0.575
  region: 0.075,0.425 -0.075,0.425 -0.075,0.375 0.075,0.375
  region: 0.425,0.575 0.425,0.425 0.575,0.425 0.575,0.575
  region: 0.425,0.425 0.425,0.575 0.375,0.575 0.375,0.425
  rectangle: 0.425,0.575 0.575,0.625
  region: 0.575,0.575 0.575,0.425 0.625,0.425 0.625,0.575
  region: 0.575,0.425 0.425,0.425 0.425,0.375 0.575,0.375
  region: -0.575,0.075 -0.575,-0.075 -0.425,-0.075 -0.425,0.075
  region: -0.575,-0.075 -0.575,0.075 -0.625,0.075 -0.625,-0.075
  rectangle: -0.575,0.075 -0.425,0.125
  region: -0.425,0.075 -0.425,-0.075 -0.375,-0.075 -0.375,0.075
  region: -0.425,-0.075 -0.575,-0.075 -0.575,-0.125 -0.425,-0.125
  region: -0.075,0.075 -0.075,-0.075 0.075,-0.075 0.075,0.075
  region: -0.075,-0.075 -0.075,0.075 -0.125,0.075 -0.125,-0.075
  rectangle: -0.075,0.075 0.075,0.125
  region: 0.075,0.075 0.075,-0.075 0.125,-0.075 0.125,0.075
  region: 0.075,-0.075 -0.075,-0.075 -0.075,-0.125 0.075,-0.125
  region: 0.425,0.075 0.425,-0.075 0.575,-0.075 0.575,0.075
  region: 0.425,-0.075 0.425,0.075 0.375,0.075 0.375,-0.075
  rectangle: 0.425,0.075 0.575,0.125
  region: 0.575,0.075 0.575,-0.075 0.625,-0.075 0.625,0.075
  region: 0.575,-0.075 0.425,-0.075 0.425,-0.125 0.575,-0.125
  region: -0.575,-0.425 -0.575,-0.575 -0.425,-0.575 -0.425,-0.425
  region: -0.575,-0.575 -0.575,-0.425 -0.625,-0.425 -0.625,-0.575
  rectangle: -0.575,-0.425 -0.425,-0.375
  region: -0.425,-0.425 -0.425,-0.575 -0.375,-0.575 -0.375,-0.425
  region: -0.425,-0.575 -0.575,-0.575 -0.575,-0.625 -0.425,-0.625
  region: -0.075,-0.425 -0.075,-0.575 0.075,-0.575 0.075,-0.425
  region: -0.075,-0.575 -0.075,-0.425 -0.125,-0.425 -0.125,-0.575
  rectangle: -0.075,-0.425 0.075,-0.375
  region: 0.075,-0.425 0.075,-0.575 0.125,-0.575 0.125,-0.425
  region: 0.075,-0.575 -0.075,-0.575 -0.075,-0.625 0.075,-0.625
  region: 0.425,-0.425 0.425,-0.575 0.575,-0.575 0.575,-0.425
  region: 0.425,-0.575 0.425,-0.425 0.375,-0.425 0.375,-0.575
  rectangle: 0.425,-0.425 0.575,-0.375
  region: 0.575,-0.425 0.575,-0.575 0.625,-0.575 0.625,-0.425
  region: 0.575,-0.575 0.425,-0.575 0.425,-0.625 0.575,-0.625
Mechanical 13:
  lines w0.1: -0.79,-0.81 -0.79,0.81 0.79,0.81 0.79,-0.81 -0.79,-0.81
Mechanical 15:
  lines w0.05: -0.89,-0.91 -0.89,0.91 0.89,0.91 0.89,-0.91 -0.89,-0.91
  lines w0.1: -0.5,0 0.5,0 ; 0,-0.5 0,0.5
3D body: height 0.43, standoff 0, extent -0.79,-0.81 0.79,0.81

## V20A_L [mm] "Leaded Chip Carrier, 20-Leads, Body 9x9mm, Pitch 1.27mm, IPC High Density"
height 4.57
pads (20):
  oval 0.6x2 smd: 1(0,4.2) 2(-1.27,4.2) 3(-2.54,4.2) 9(-2.54,-4.2) 10(-1.27,-4.2) 11(0,-4.2) 12(1.27,-4.2) 13(2.54,-4.2) 19(2.54,4.2) 20(1.27,4.2)
  oval 2x0.6 smd: 4(-4.2,2.54) 5(-4.2,1.27) 6(-4.2,0) 7(-4.2,-1.27) 8(-4.2,-2.54) 14(4.2,-2.54) 15(4.2,-1.27) 16(4.2,0) 17(4.2,1.27) 18(4.2,2.54)
Top Overlay:
  circle w0.6: c0,0.8 r0.3
  circle w0.25: c0,5.75 r0.125
  lines w0.2: 2.8,1.8 -2.8,1.8 ; -2.8,1.8 -2.8,-2.8 2.8,-2.8 2.8,2.8 -1.8,2.8 -2.8,1.8
Mechanical 13:
  circle w0.1: c0,3.62 r0.5
  lines w0.1: -4.52,-4.52 4.52,-4.52 4.52,4.52 -4.52,4.52 -4.52,-4.52
Mechanical 15:
  lines w0.05: -5.3,-5.3 5.3,-5.3 5.3,5.3 -5.3,5.3 -5.3,-5.3
  lines w0.1: -0.5,0 0.5,0 ; 0,-0.5 0,0.5
3D body: height 4.57, standoff 0, extent -4.52,-4.52 4.52,4.52

## V20A_M [mm] "Leaded Chip Carrier, 20-Leads, Body 9x9mm, Pitch 1.27mm, IPC Low Density"
height 4.57
pads (20):
  oval 0.7x2.6 smd: 1(0,4.3) 2(-1.27,4.3) 3(-2.54,4.3) 9(-2.54,-4.3) 10(-1.27,-4.3) 11(0,-4.3) 12(1.27,-4.3) 13(2.54,-4.3) 19(2.54,4.3) 20(1.27,4.3)
  oval 2.6x0.7 smd: 4(-4.3,2.54) 5(-4.3,1.27) 6(-4.3,0) 7(-4.3,-1.27) 8(-4.3,-2.54) 14(4.3,-2.54) 15(4.3,-1.27) 16(4.3,0) 17(4.3,1.27) 18(4.3,2.54)
Top Overlay:
  circle w0.6: c0,0.6 r0.3
  circle w0.25: c0,6.15 r0.125
  lines w0.2: 2.6,1.6 -2.6,1.6 ; -2.6,1.6 -2.6,-2.6 2.6,-2.6 2.6,2.6 -1.6,2.6 -2.6,1.6
Mechanical 13:
  circle w0.1: c0,3.62 r0.5
  lines w0.1: -4.52,-4.52 4.52,-4.52 4.52,4.52 -4.52,4.52 -4.52,-4.52
Mechanical 15:
  lines w0.05: -6.1,-6.1 6.1,-6.1 6.1,6.1 -6.1,6.1 -6.1,-6.1
  lines w0.1: -0.5,0 0.5,0 ; 0,-0.5 0,0.5
3D body: height 4.57, standoff 0, extent -4.52,-4.52 4.52,4.52

## V20A_N [mm] "Leaded Chip Carrier, 20-Leads, Body 9x9mm, Pitch 1.27mm, IPC Medium Density"
height 4.57
pads (20):
  oval 0.6x2.3 smd: 1(0,4.25) 2(-1.27,4.25) 3(-2.54,4.25) 9(-2.54,-4.25) 10(-1.27,-4.25) 11(0,-4.25) 12(1.27,-4.25) 13(2.54,-4.25) 19(2.54,4.25) 20(1.27,4.25)
  oval 2.3x0.6 smd: 4(-4.25,2.54) 5(-4.25,1.27) 6(-4.25,0) 7(-4.25,-1.27) 8(-4.25,-2.54) 14(4.25,-2.54) 15(4.25,-1.27) 16(4.25,0) 17(4.25,1.27) 18(4.25,2.54)
Top Overlay:
  circle w0.25: c0,5.95 r0.125
  circle w0.6: c0,0.7 r0.3
  lines w0.2: 2.7,1.7 -2.7,1.7 ; -2.7,1.7 -1.7,2.7 2.7,2.7 2.7,-2.7 -2.7,-2.7 -2.7,1.7
Mechanical 13:
  circle w0.1: c0,3.62 r0.5
  lines w0.1: -4.52,-4.52 -4.52,4.52 4.52,4.52 4.52,-4.52 -4.52,-4.52
Mechanical 15:
  lines w0.05: -5.65,-5.65 -5.65,5.65 5.65,5.65 5.65,-5.65 -5.65,-5.65
  lines w0.1: -0.5,0 0.5,0 ; 0,-0.5 0,0.5
3D body: height 4.57, standoff 0, extent -4.52,-4.52 4.52,4.52

## V44A_L [mm] "Leaded Chip Carrier, 44-Leads, Body 16.6x16.6mm, Pitch 1.27mm, IPC High Density"
height 4.57
pads (44):
  oval 0.6x2 smd: 1(0,8) 2(-1.27,8) 3(-2.54,8) 4(-3.81,8) 5(-5.08,8) 6(-6.35,8) 18(-6.35,-8) 19(-5.08,-8) 20(-3.81,-8) 21(-2.54,-8) 22(-1.27,-8) 23(0,-8) 24(1.27,-8) 25(2.54,-8) 26(3.81,-8) 27(5.08,-8) 28(6.35,-8) 40(6.35,8) 41(5.08,8) 42(3.81,8) 43(2.54,8) 44(1.27,8)
  oval 2x0.6 smd: 7(-8,6.35) 8(-8,5.08) 9(-8,3.81) 10(-8,2.54) 11(-8,1.27) 12(-8,0) 13(-8,-1.27) 14(-8,-2.54) 15(-8,-3.81) 16(-8,-5.08) 17(-8,-6.35) 29(8,-6.35) 30(8,-5.08) 31(8,-3.81) 32(8,-2.54) 33(8,-1.27) 34(8,0) 35(8,1.27) 36(8,2.54) 37(8,3.81) 38(8,5.08) 39(8,6.35)
Top Overlay:
  circle w0.25: c0,9.55 r0.125
  circle w0.6: c0,4.6 r0.3
  lines w0.2: 6.6,5.6 -6.6,5.6 ; -6.6,5.6 -5.6,6.6 6.6,6.6 6.6,-6.6 -6.6,-6.6 -6.6,5.6
Mechanical 13:
  circle w0.1: c0,7.43 r0.5
  lines w0.1: -8.33,-8.33 -8.33,8.33 8.33,8.33 8.33,-8.33 -8.33,-8.33
Mechanical 15:
  lines w0.05: -9.1,-9.1 -9.1,9.1 9.1,9.1 9.1,-9.1 -9.1,-9.1
  lines w0.1: -0.5,0 0.5,0 ; 0,-0.5 0,0.5
3D body: height 4.57, standoff 0, extent -8.33,-8.33 8.33,8.33

## V44A_M [mm] "Leaded Chip Carrier, 44-Leads, Body 16.6x16.6mm, Pitch 1.27mm, IPC Low Density"
height 4.57
pads (44):
  oval 0.7x2.6 smd: 1(0,8.1) 2(-1.27,8.1) 3(-2.54,8.1) 4(-3.81,8.1) 5(-5.08,8.1) 6(-6.35,8.1) 18(-6.35,-8.1) 19(-5.08,-8.1) 20(-3.81,-8.1) 21(-2.54,-8.1) 22(-1.27,-8.1) 23(0,-8.1) 24(1.27,-8.1) 25(2.54,-8.1) 26(3.81,-8.1) 27(5.08,-8.1) 28(6.35,-8.1) 40(6.35,8.1) 41(5.08,8.1) 42(3.81,8.1) 43(2.54,8.1) 44(1.27,8.1)
  oval 2.6x0.7 smd: 7(-8.1,6.35) 8(-8.1,5.08) 9(-8.1,3.81) 10(-8.1,2.54) 11(-8.1,1.27) 12(-8.1,0) 13(-8.1,-1.27) 14(-8.1,-2.54) 15(-8.1,-3.81) 16(-8.1,-5.08) 17(-8.1,-6.35) 29(8.1,-6.35) 30(8.1,-5.08) 31(8.1,-3.81) 32(8.1,-2.54) 33(8.1,-1.27) 34(8.1,0) 35(8.1,1.27) 36(8.1,2.54) 37(8.1,3.81) 38(8.1,5.08) 39(8.1,6.35)
Top Overlay:
  circle w0.6: c0,4.4 r0.3
  circle w0.25: c0,9.95 r0.125
  lines w0.2: 6.4,5.4 -6.4,5.4 ; -6.4,5.4 -6.4,-6.4 6.4,-6.4 6.4,6.4 -5.4,6.4 -6.4,5.4
Mechanical 13:
  circle w0.1: c0,7.43 r0.5
  lines w0.1: -8.33,-8.33 8.33,-8.33 8.33,8.33 -8.33,8.33 -8.33,-8.33
Mechanical 15:
  lines w0.05: -9.9,-9.9 9.9,-9.9 9.9,9.9 -9.9,9.9 -9.9,-9.9
  lines w0.1: -0.5,0 0.5,0 ; 0,-0.5 0,0.5
3D body: height 4.57, standoff 0, extent -8.33,-8.33 8.33,8.33

## V44A_N [mm] "Leaded Chip Carrier, 44-Leads, Body 16.6x16.6mm, Pitch 1.27mm, IPC Medium Density"
height 4.57
pads (44):
  oval 0.6x2.3 smd: 1(0,8.05) 2(-1.27,8.05) 3(-2.54,8.05) 4(-3.81,8.05) 5(-5.08,8.05) 6(-6.35,8.05) 18(-6.35,-8.05) 19(-5.08,-8.05) 20(-3.81,-8.05) 21(-2.54,-8.05) 22(-1.27,-8.05) 23(0,-8.05) 24(1.27,-8.05) 25(2.54,-8.05) 26(3.81,-8.05) 27(5.08,-8.05) 28(6.35,-8.05) 40(6.35,8.05) 41(5.08,8.05) 42(3.81,8.05) 43(2.54,8.05) 44(1.27,8.05)
  oval 2.3x0.6 smd: 7(-8.05,6.35) 8(-8.05,5.08) 9(-8.05,3.81) 10(-8.05,2.54) 11(-8.05,1.27) 12(-8.05,0) 13(-8.05,-1.27) 14(-8.05,-2.54) 15(-8.05,-3.81) 16(-8.05,-5.08) 17(-8.05,-6.35) 29(8.05,-6.35) 30(8.05,-5.08) 31(8.05,-3.81) 32(8.05,-2.54) 33(8.05,-1.27) 34(8.05,0) 35(8.05,1.27) 36(8.05,2.54) 37(8.05,3.81) 38(8.05,5.08) 39(8.05,6.35)
Top Overlay:
  circle w0.25: c0,9.75 r0.125
  circle w0.6: c0,4.5 r0.3
  lines w0.2: 6.5,5.5 -6.5,5.5 ; -6.5,5.5 -5.5,6.5 6.5,6.5 6.5,-6.5 -6.5,-6.5 -6.5,5.5
Mechanical 13:
  circle w0.1: c0,7.43 r0.5
  lines w0.1: -8.33,-8.33 -8.33,8.33 8.33,8.33 8.33,-8.33 -8.33,-8.33
Mechanical 15:
  lines w0.05: -9.45,-9.45 -9.45,9.45 9.45,9.45 9.45,-9.45 -9.45,-9.45
  lines w0.1: -0.5,0 0.5,0 ; 0,-0.5 0,0.5
3D body: height 4.57, standoff 0, extent -8.33,-8.33 8.33,8.33